# Altium schematic symbol library TP4056-42-ESOP8.SchLib: 1 symbol
Pins are listed as number, name and electrical type; pins without a type are passive.

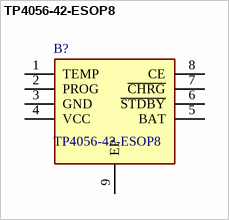
[diagram p0: symbol TP4056-42-ESOP8]

## TP4056-42-ESOP8
designator B?
f; Manufacturer_Name: NanJing Top Power; Geometry.Height: 1.75mm; Manufacturer_Part_Number: TP4056-42-ESOP8; Mouser Part Number: *; Mouser Price/Stock: *; Arrow Part Number: *; Arrow Price/Stock: *; Datasheet Link: https://datasheet.lcsc.com/szlcsc/1906261508_Nanjing-Extension-Microelectronics-TP4056-42-ESOP8_C16581.pdf
footprint SOIC127P600X175-9N
pins: 1 TEMP, 2 PROG, 3 GND, 4 VCC, 5 BAT, 6 ~{STDBY}, 7 ~{CHRG}, 8 CE, 9 EP